# Altium schematic symbol library NXP_transceivers.SchLib: 1 symbol
Pins are listed as number, name and electrical type; pins without a type are passive.

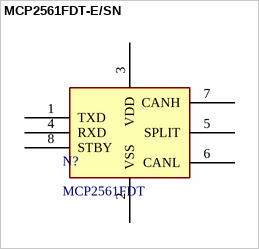
[diagram p0: symbol MCP2561FDT-E/SN]

## MCP2561FDT-E/SN
designator N?, comment MCP2561FDT
MCP2561 Series 5.5 V 8 Mbps High-Speed CAN Flexible Data Rate Transceiver-SOIC-8; Manufacturer: Microchip; Manufacturer Part Number: MCP2561FDT-E/SN; Number of Drivers/Receivers: 1/1; Receiver Hysteresis: 200mV; Data Rate: 8Mbps; Voltage - Supply: 4.5 V ~ 5.5 V; Supplier 1: Digi-Key; Stock 1: 6665; Pricing 1: 1=0.97, 25=0.81, 100=0.74 (USD); Category: Integrated Circuits (ICs); Family: Interface - Drivers, Receivers, Transceivers; Series: -; Packaging: Tape & Reel (TR); Type: Transceiver; Protocol: CAN; Duplex: -; Operating Temperature: -40°C ~ 125°C; Mounting Type: Surface Mount; Package / Case: 8-SOIC (0.154", 3.90mm Width); Supplier Device Package: 8-SOIC; ComponentLink1URL: http://www.mouser.com/ds/2/268/20005284A-708901.pdf?src-supplier=Mouser; ComponentLink1Description: http://www.mouser.com/ds/2/268/20005284A-708901.pdf?src-supplier=Mouser; ComponentLink2URL: http://ww1.microchip.com/downloads/en/DeviceDoc/20005284A.pdf?src-supplier=Avnet; ComponentLink2Description: http://ww1.microchip.com/downloads/en/DeviceDoc/20005284A.pdf?src-supplier=Avnet; ComponentLink3URL: http://www.microchip.com/mymicrochip/filehandler.aspx?ddocname=en568915&src-supplier=Digi-Key; ComponentLink3Description: http://www.microchip.com/mymicrochip/filehandler.aspx?ddocname=en568915&src-supplier=Digi-Key; Supplier Part Number 1: MCP2561FDT-E/SNCT-ND
pins: 1 TXD (power), 2 VSS (power), 3 VDD (power), 4 RXD (power), 5 SPLIT (power), 6 CANL (power), 7 CANH (power), 8 STBY (power)